# Altium footprint library CiDLib.PcbLib: 54 footprints (part 4 of 4)
Each footprint in its own frame and in the unit in brackets; x right, y up, seen from the top. Pads: shape width x height; smd on the part's side, far side on the other; paste and mask are expansions set on the pad; w line width, h text height; cw(c..) or ccw(c..) is an arc to the next point about the centre after c.
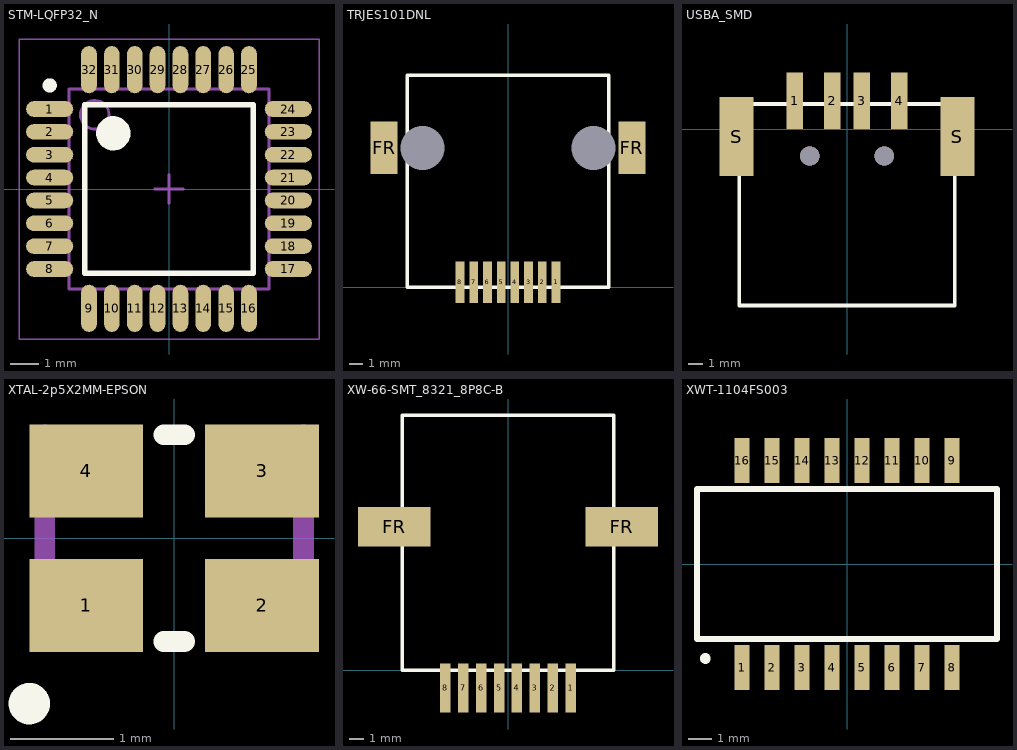
[diagram p3: the footprints below, top view; thin cyan lines are the x and y axes]

## STM-LQFP32_N [mm] "QFP, 32-Leads, Body 7x7mm, Pitch 0.8mm, IPC Medium Density"
height 1.6
pads (32):
  oval 1.65x0.55 smd: 1(-4.175,2.8) 2(-4.175,2) 3(-4.175,1.2) 4(-4.175,0.4) 5(-4.175,-0.4) 6(-4.175,-1.2) 7(-4.175,-2) 8(-4.175,-2.8) 17(4.175,-2.8) 18(4.175,-2) 19(4.175,-1.2) 20(4.175,-0.4) 21(4.175,0.4) 22(4.175,1.2) 23(4.175,2) 24(4.175,2.8)
  oval 0.55x1.65 smd: 9(-2.8,-4.175) 10(-2,-4.175) 11(-1.2,-4.175) 12(-0.4,-4.175) 13(0.4,-4.175) 14(1.2,-4.175) 15(2,-4.175) 16(2.8,-4.175) 25(2.8,4.175) 26(2,4.175) 27(1.2,4.175) 28(0.4,4.175) 29(-0.4,4.175) 30(-1.2,4.175) 31(-2,4.175) 32(-2.8,4.175)
Top Overlay:
  circle w0.6: c-1.95,1.95 r0.3
  circle w0.25: c-4.175,3.625 r0.125
  lines w0.2: -2.95,-2.95 2.95,-2.95 2.95,2.95 -2.95,2.95 -2.95,-2.95
Mechanical 13:
  circle w0.1: c-2.6,2.6 r0.5
  lines w0.1: -3.5,-3.5 3.5,-3.5 3.5,3.5 -3.5,3.5 -3.5,-3.5
Mechanical 15:
  lines w0.05: -5.25,-5.25 5.25,-5.25 5.25,5.25 -5.25,5.25 -5.25,-5.25
  lines w0.1: -0.5,0 0.5,0 ; 0,-0.5 0,0.5
3D body: height 1.6, standoff 0.05, extent -3.5,-3.5 3.5,3.5

## TRJES101DNL [mm]
pads (12):
  rect 0.65x3.05 smd: 1(3.57,0.37) 2(2.55,0.37) 3(1.53,0.37) 4(0.51,0.37) 5(-0.51,0.37) 6(-1.53,0.37) 7(-2.55,0.37) 8(-3.57,0.37)
  rect 2x3.89 smd: FR(-9.2,10.35) FR(9.2,10.35)
  round 0 hole 3.25 unplated: H(-6.35,10.35) H(6.35,10.35)
Top Overlay:
  lines w0.254: -7.5,0 -7.5,15.75 7.5,15.75 7.5,0 -7.5,0
3D body: height 11.5, standoff 0, extent -7.499,0 7.499,15.749

## USBA_SMD [mm] "USB SMT (1).pdf from Jinglai"
pads (6):
  rect 1.1x3.8 smd: 1(-3.5,1.9) 2(-1,1.9) 3(1,1.9) 4(3.5,1.9)
  rect 2.3x5.3 smd: S(-7.4,-0.5) S(7.4,-0.5)
via -2.5,-1.8 diameter 1.3 hole 1.3
via 2.5,-1.8 diameter 1.3 hole 1.3
Top Overlay:
  lines w0.254: -7.225,-11.825 -7.225,1.675 7.225,1.675 7.225,-11.825 -7.225,-11.825
3D body: height 6.95, standoff 0, extent -7.224,-11.824 7.224,1.674

## XTAL-2p5X2MM-EPSON [mm]
pads (4):
  rect 1.1x0.9 smd: 1(-0.85,-0.65) 2(0.85,-0.65) 3(0.85,0.65) 4(-0.85,0.65)
Top Overlay:
  circle w0.2: c-1.4,-1.6 r0.1
  lines w0.2: -0.1,-1 0.1,-1 ; -0.1,1 0.1,1
Mechanical 16:
  lines w0.2: -1.25,-1 -1.25,1 ; 1.25,-1 1.25,1
3D body: height 0.8, standoff 0, extent -1.25,-1 1.247,1

## XW-66-SMT_8321_8P8C-B [mm]
pads (10):
  rect 0.75x3.5 smd: 1(4.445,-1.25) 2(3.175,-1.25) 3(1.905,-1.25) 4(0.635,-1.25) 5(-0.635,-1.25) 6(-1.905,-1.25) 7(-3.175,-1.25) 8(-4.445,-1.25)
  rect 5.15x2.8 smd: FR(-8.075,10.2) FR(8.075,10.2)
Top Overlay:
  lines w0.254: -7.5,0 7.5,0 7.5,18.1 -7.5,18.1 -7.5,0
3D body: height 11.5, standoff 0, extent -7.499,0.001 7.499,18.099

## XWT-1104FS003 [mil] "XW LAN Transformer"
pads (16):
  rect 25x75 smd: 1(-175,-172.5) 2(-125,-172.5) 3(-75,-172.5) 4(-25,-172.5) 5(25,-172.5) 6(75,-172.5) 7(125,-172.5) 8(175,-172.5) 9(175,172.5) 10(125,172.5) 11(75,172.5) 12(25,172.5) 13(-25,172.5) 14(-75,172.5) 15(-125,172.5) 16(-175,172.5)
Top Overlay:
  circle w10: c-236.22,-157.48 r3.94
  lines w10: -250,-125 250,-125 250,125 -250,125 -250,-125
3D body: height 210, standoff 0, extent -249.98,-124.98 249.98,124.98